# EAGLE library part FDC2214 (library FDC2214)
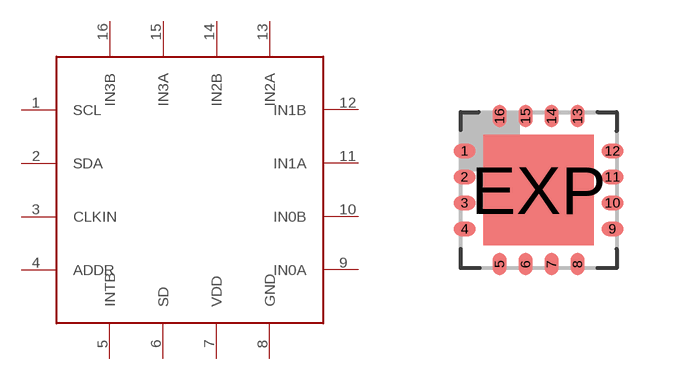
[diagram p0: symbol with the pads of QFN16-4X4; footprint QFN16-4X4]

Designator prefix -

## FDC2214  [QFN16-4X4]
1  SCL  in
2  SDA
3  CLKIN  in
4  ADDR  in
5  INTB  out
6  SD  in
7  VDD  pwr
8  GND  pwr
9  IN0A  in
10  IN0B  in
11  IN1A  in
12  IN1B  in
13  IN2A  in
14  IN2B  in
15  IN3A  in
16  IN3B  in

## Footprint QFN16-4X4 (pad centres in mm)
QFN-16 4x4 mm Source: http://www.gennum.com/video/pdf/37184DOC.pdf
smd 0.55 x 0.35: 1 -1.85,0.975; 2 -1.85,0.325; 3 -1.85,-0.325; 4 -1.85,-0.975; 9 1.85,-0.975; 10 1.85,-0.325; 11 1.85,0.325; 12 1.85,0.975
smd 0.35 x 0.55: 5 -0.975,-1.85; 6 -0.325,-1.85; 7 0.325,-1.85; 8 0.975,-1.85; 13 0.975,1.85; 14 0.325,1.85; 15 -0.325,1.85; 16 -0.975,1.85
smd 2.76 x 2.76: EXP 0,0